# EAGLE library part MAX11210 (library 1A-meinLib)
24-Bit, Single-Channel, Ultra-low-Power Delta-Sigma ADC with GPIO, QSOP-16
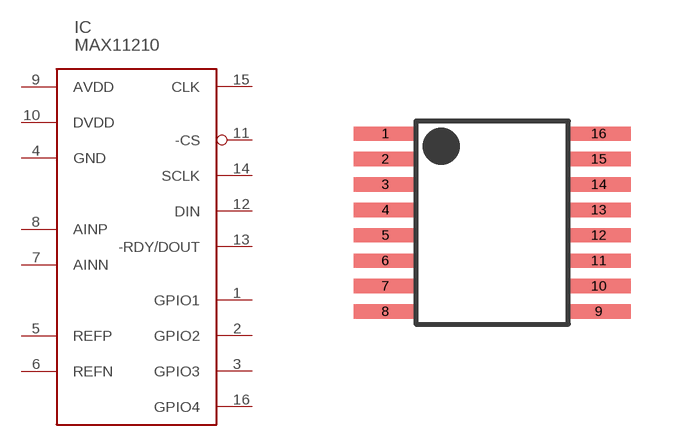
[diagram p372: symbol with the pads of QSOP_16_PACKAGE; footprint QSOP_16_PACKAGE]

Designator prefix IC

## MAX11210  [QSOP_16_PACKAGE]
1  GPIO1
2  GPIO2
3  GPIO3
4  GND  pas
5  REFP  in
6  REFN  in
7  AINN  in
8  AINP  in
9  AVDD  pas
10  DVDD  pas
11  -CS  in
12  DIN  in
13  -RDY/DOUT  out
14  SCLK  in
15  CLK  in
16  GPIO4

## Footprint QSOP_16_PACKAGE (pad centres in mm)
Package Outline QSOP, 16 Leads, (E16-1, E16-4, E16-5, E16-8F, E16M-1)
smd 1.6 x 0.356: 1 -2.667,2.223; 2 -2.667,1.587; 3 -2.667,0.953; 4 -2.667,0.318; 5 -2.667,-0.318; 6 -2.667,-0.953; 7 -2.667,-1.587; 8 -2.667,-2.223; 9 2.667,-2.223; 10 2.667,-1.587; 11 2.667,-0.953; 12 2.667,-0.318; 13 2.667,0.318; 14 2.667,0.953; 15 2.667,1.587; 16 2.667,2.223